# Altium integrated library Altium_SMD_Resister.IntLib: 493 symbols (part 5 of 8)
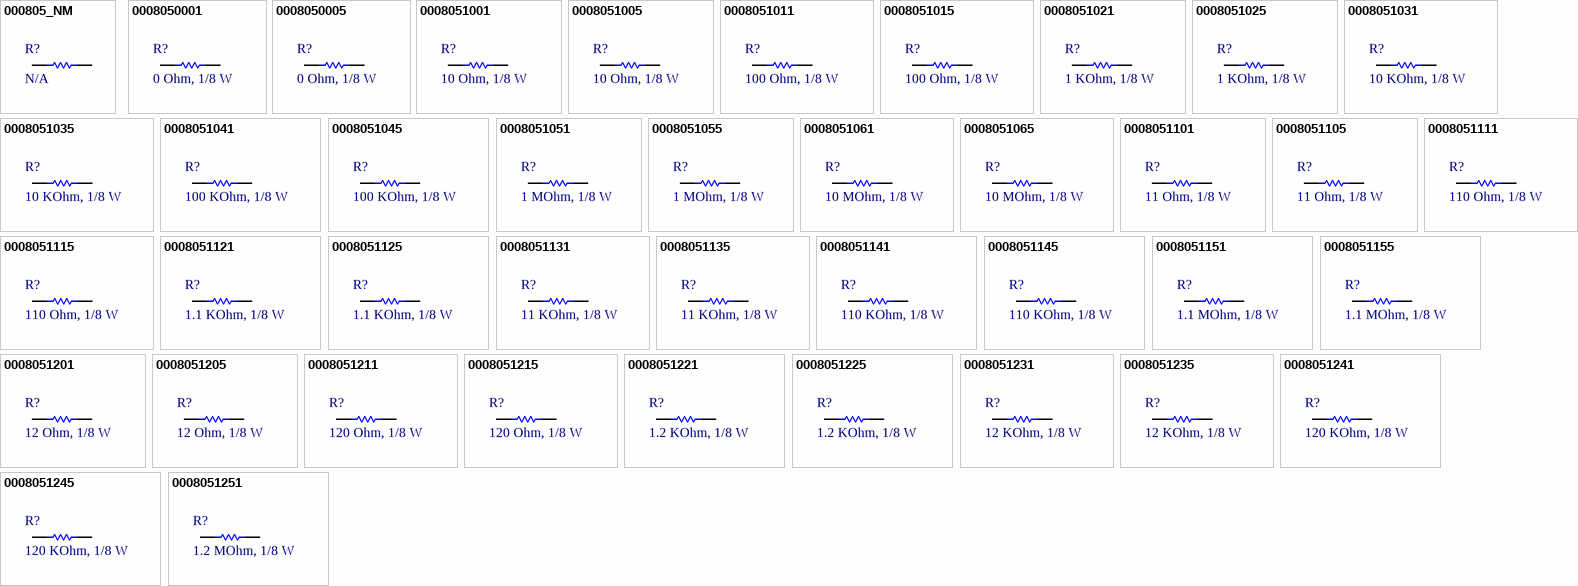
[diagram p16: symbols 000805_NM to 0008051251]

## 0008051241
designator R?, comment 120 KOhm, 1/8 W
RES, size 0805, 120 KOhm, 1/8 W; Manufacture  Name: Vishay Dale; Manufacture  SN: CRCW0805120KFKEB; Resistance tolerance: +/-1%; Rated Power: 1/8 W; Size: 0805; Mounting Technology: SMT; Datasheet: https://www.vishay.com/docs/20035/dcrcwe3.pdf; Resistance: 120 KOhm; Supplier 1 Name: Mouser; Supplier 1 SN: 71-CRCW0805120KFKEAC; Supplier 1 URL: https://www.mouser.vn/ProductDetail/Vishay-Dale/CRCW0805120KFKEAC?qs=E3Y5ESvWgWPz1L64z3fNYQ%3D%3D; Supplier 2 Name: Digi-Key; Supplier 2 SN: 541-CRCW0805120KFKEBTR-ND; Supplier 2 URL: https://www.digikey.com/en/products/detail/vishay-dale/CRCW0805120KFKEB/5073706; Supplier 3 Name: Thegioiic; Supplier 3 SN: N/A; Supplier 3 URL: N/A; Value: 120 KOhm, 1/8 W
footprint RESISTOR_0805 (Chip Resistor, 2-Leads, Body 2,00x1,20mm, IPC Medium Density)
pins: 1, 2

## 0008051245
designator R?, comment 120 KOhm, 1/8 W
RES, size 0805, 120 KOhm, 1/8 W; Manufacture  Name: Vishay Dale; Manufacture  SN: CRCW0805120KJNEA; Resistance tolerance: +/-5%; Rated Power: 1/8 W; Size: 0805; Mounting Technology: SMT; Datasheet: https://www.vishay.com/docs/20035/dcrcwe3.pdf; Resistance: 120 KOhm; Supplier 1 Name: Mouser; Supplier 1 SN: 71-CRCW0805120KJNEA; Supplier 1 URL: https://www.mouser.vn/ProductDetail/Vishay-Dale/CRCW0805120KJNEA?qs=RG5hTW80OZISYDThER7IDg%3D%3D; Supplier 2 Name: Digi-Key; Supplier 2 SN: 541-120KATR-ND; Supplier 2 URL: https://www.digikey.com/en/products/detail/vishay-dale/CRCW0805120KJNEA/1175248; Supplier 3 Name: Thegioiic; Supplier 3 SN: N/A; Supplier 3 URL: https://www.thegioiic.com/dien-tro-120-kohm-0805-5; Value: 120 KOhm, 1/8 W
footprint RESISTOR_0805 (Chip Resistor, 2-Leads, Body 2,00x1,20mm, IPC Medium Density)
pins: 1, 2

## 0008051251
designator R?, comment 1.2 MOhm, 1/8 W
RES, size 0805, 1.2 MOhm, 1/8 W; Manufacture  Name: Vishay Dale; Manufacture  SN: CRCW08051M20FKEA; Resistance tolerance: +/-1%; Rated Power: 1/8 W; Size: 0805; Mounting Technology: SMT; Datasheet: https://www.vishay.com/docs/20035/dcrcwe3.pdf; Resistance: 1.2 MOhm; Supplier 1 Name: Mouser; Supplier 1 SN: 71-CRCW08051M20FKEA; Supplier 1 URL: https://www.mouser.vn/ProductDetail/Vishay-Dale/CRCW08051M20FKEA?qs=uQdQW2oKfUVC5dKjGtshLg%3D%3D; Supplier 2 Name: Digi-Key; Supplier 2 SN: 541-1.20MCTR-ND; Supplier 2 URL: https://www.digikey.com/en/products/detail/vishay-dale/CRCW08051M20FKEA/1176024; Supplier 3 Name: Thegioiic; Supplier 3 SN: N/A; Supplier 3 URL: N/A; Value: 1.2 MOhm, 1/8 W
footprint RESISTOR_0805 (Chip Resistor, 2-Leads, Body 2,00x1,20mm, IPC Medium Density)
pins: 1, 2

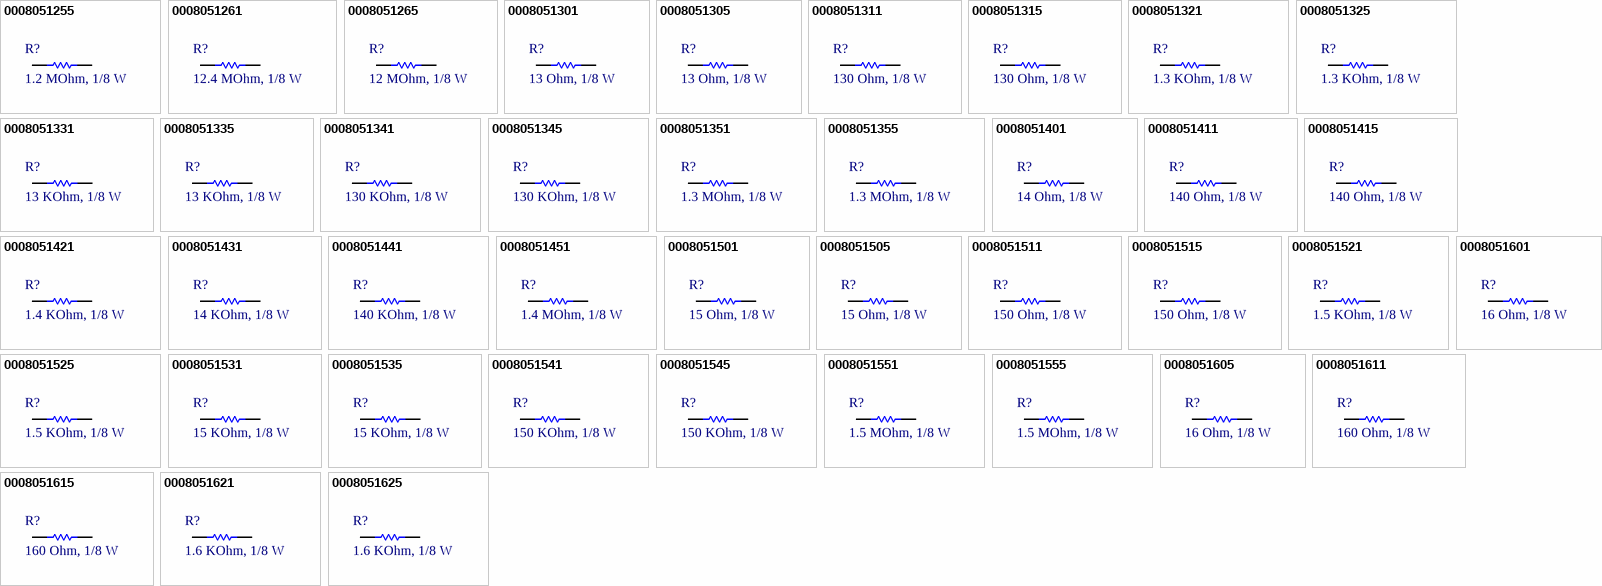
[diagram p7: symbols 0008051255 to 0008051625]

## 0008051255
designator R?, comment 1.2 MOhm, 1/8 W
RES, size 0805, 1.2 MOhm, 1/8 W; Manufacture  Name: Vishay Dale; Manufacture  SN: CRCW08051M20JNEA; Resistance tolerance: +/-5%; Rated Power: 1/8 W; Size: 0805; Mounting Technology: SMT; Datasheet: https://www.vishay.com/docs/20035/dcrcwe3.pdf; Resistance: 1.2 MOhm; Supplier 1 Name: Mouser; Supplier 1 SN: 71-CRCW08051M20JNEA; Supplier 1 URL: https://www.mouser.vn/ProductDetail/Vishay-Dale/CRCW08051M20JNEA?qs=1CkV0QOCgMrKOwOc4yedvw%3D%3D; Supplier 2 Name: Digi-Key; Supplier 2 SN: 541-1.2MATR-ND; Supplier 2 URL: https://www.digikey.com/en/products/detail/vishay-dale/CRCW08051M20JNEA/1175272; Supplier 3 Name: Thegioiic; Supplier 3 SN: N/A; Supplier 3 URL: https://www.thegioiic.com/dien-tro-1-2-mohm-0805-5; Value: 1.2 MOhm, 1/8 W
footprint RESISTOR_0805 (Chip Resistor, 2-Leads, Body 2,00x1,20mm, IPC Medium Density)
pins: 1, 2

## 0008051261
designator R?, comment 12.4 MOhm, 1/8 W
RES, size 0805, 12.4 MOhm, 1/8 W; Resistance tolerance: +/-1%; Rated Power: 1/8 W; Size: 0805; Mounting Technology: SMT; Datasheet: N/A; Resistance: 12.4 MOhm; Supplier 1 Name: Mouser; Supplier 1 SN: N/A; Supplier 1 URL: N/A; Supplier 2 Name: Digi-Key; Supplier 2 SN: 2679-CR0805-8W-1245FTTR-ND; Supplier 2 URL: https://www.digikey.com/en/products/detail/venkel/CR0805-8W-1245FT/12332325?s=N4IgjCBcoExaBjKAzAhgGwM4FMA0IB7KAbXAAYAOAdgE4QBdfABwBcoQBlFgJwEsA7AOYgAvvgDM8EEkhoseQiXBhxERiFbsufIaPxgYNCNGkoMOfEUilxNcTAoNmbSJx4DhYkDEoBWKTJyForW4DAAdAAsAAQAsgDyABYAtphOGi4gAKr8vCzxyLHYqJgArtzYeiAAtMaIZvKWSr6REPgwAGy0IPi%2BHQwig0A; Supplier 3 Name: Thegioiic; Supplier 3 SN: N/A; Supplier 3 URL: N/A; Manufacture  Name: N/A; Manufacture  SN: N/A; Value: 12.4 MOhm, 1/8 W
footprint RESISTOR_0805 (Chip Resistor, 2-Leads, Body 2,00x1,20mm, IPC Medium Density)
pins: 1, 2

## 0008051265
designator R?, comment 12 MOhm, 1/8 W
RES, size 0805, 12 MOhm, 1/8 W; Resistance tolerance: +/-5%; Rated Power: 1/8 W; Resistance: 12 MOhm; Size: 0805; Mounting Technology: SMT; Datasheet: N/A; Supplier 1 Name: Mouser; Supplier 1 SN: N/A; Supplier 1 URL: N/A; Supplier 2 Name: Digi-Key; Supplier 2 SN: CRCW080512M0JPEAHR-ND; Supplier 2 URL: https://www.digikey.com/en/products/detail/vishay-dale/CRCW080512M0JPEAHR/5073763?s=N4IgjCBcoExaBjKAzAhgGwM4FMA0IB7KAbXAAYAOAdgE4QBdfABwBcoQBlFgJwEsA7AOYgAvvgDM8EEkhoseQiRAwArGUmMQrdlz5DR%2BMDBoRo0lBhz4ikUuJriYFBszaROPAcLHLKKqTJyVoq24DAABACyAPIAFgC2mC5abiAAqvy8LNHIkdiomACu3NgGIAC0pogW8tZKKgAsEPQirUA; Supplier 3 Name: Thegioiic; Supplier 3 SN: N/A; Supplier 3 URL: N/A; Manufacture  Name: N/A; Manufacture  SN: N/A; Value: 12 MOhm, 1/8 W
footprint RESISTOR_0805 (Chip Resistor, 2-Leads, Body 2,00x1,20mm, IPC Medium Density)
pins: 1, 2

## 0008051301
designator R?, comment 13 Ohm, 1/8 W
RES, size 0805, 13 Ohm, 1/8 W; Manufacture  Name: Vishay Dale; Manufacture  SN: CRCW080513R0FKEA; Resistance tolerance: +/-1%; Rated Power: 1/8 W; Resistance: 13 Ohm; Size: 0805; Mounting Technology: SMT; Datasheet: https://www.vishay.com/docs/20035/dcrcwe3.pdf; Supplier 1 Name: Mouser; Supplier 1 SN: 71-CRCW0805-13; Supplier 1 URL: https://www.mouser.vn/ProductDetail/Vishay-Dale/CRCW080513R0FKTA?qs=ZOFh%252BZEbFTD7SfeHjm78bA%3D%3D; Supplier 2 Name: Digi-Key; Supplier 2 SN: 541-13.0CTR-ND; Supplier 2 URL: https://www.digikey.com/en/products/detail/vishay-dale/CRCW080513R0FKEA/1175421; Supplier 3 Name: Thegioiic; Supplier 3 SN: N/A; Supplier 3 URL: https://www.mouser.vn/ProductDetail/Vishay-Dale/CRCW080513R0FKTA?qs=ZOFh%252BZEbFTD7SfeHjm78bA%3D%3D; Value: 13 Ohm, 1/8 W
footprint RESISTOR_0805 (Chip Resistor, 2-Leads, Body 2,00x1,20mm, IPC Medium Density)
pins: 1, 2

## 0008051305
designator R?, comment 13 Ohm, 1/8 W
RES, size 0805, 13 Ohm, 1/8 W; Manufacture  Name: Vishay Dale; Manufacture  SN: CRCW080513R0JNEA; Resistance tolerance: +/-5%; Rated Power: 1/8 W; Resistance: 13 Ohm; Size: 0805; Mounting Technology: SMT; Datasheet: https://www.vishay.com/docs/20035/dcrcwe3.pdf; Supplier 1 Name: Mouser; Supplier 1 SN: 71-CRCW080513R0JNEA; Supplier 1 URL: https://www.mouser.vn/ProductDetail/Vishay-Dale/CRCW080513R0JNEA?qs=0y7Riw94L4g6KLaYV7LaYA%3D%3D; Supplier 2 Name: Digi-Key; Supplier 2 SN: 541-13.0CTR-ND; Supplier 2 URL: https://www.digikey.com/en/products/detail/vishay-dale/CRCW080513R0JNEA/1175153; Supplier 3 Name: Thegioiic; Supplier 3 SN: N/A; Supplier 3 URL: https://www.thegioiic.com/dien-tro-13-ohm-0805-5-; Value: 13 Ohm, 1/8 W
footprint RESISTOR_0805 (Chip Resistor, 2-Leads, Body 2,00x1,20mm, IPC Medium Density)
pins: 1, 2

## 0008051311
designator R?, comment 130 Ohm, 1/8 W
RES, size 0805, 130 Ohm, 1/8 W; Manufacture  Name: Vishay Dale; Manufacture  SN: CRCW0805130RFKEA; Resistance tolerance: +/-1%; Rated Power: 1/8 W; Resistance: 130 Ohm; Size: 0805; Mounting Technology: SMT; Datasheet: https://www.vishay.com/docs/20035/dcrcwe3.pdf; Supplier 1 Name: Mouser; Supplier 1 SN: 71-CRCW0805-130; Supplier 1 URL: https://www.mouser.vn/ProductDetail/Vishay-Dale/CRCW0805130RFKTA?qs=giVM%252B3aTMKxKqHz68BaXog%3D%3D; Supplier 2 Name: Digi-Key; Supplier 2 SN: 541-130CTR-ND; Supplier 2 URL: https://www.digikey.com/en/products/detail/vishay-dale/CRCW0805130RFKEA/1175535; Supplier 3 Name: Thegioiic; Supplier 3 SN: N/A; Supplier 3 URL: N/A; Value: 130 Ohm, 1/8 W
footprint RESISTOR_0805 (Chip Resistor, 2-Leads, Body 2,00x1,20mm, IPC Medium Density)
pins: 1, 2

## 0008051315
designator R?, comment 130 Ohm, 1/8 W
RES, size 0805, 130 Ohm, 1/8 W; Manufacture  Name: Vishay Dale; Manufacture  SN: CRCW0805130RFKEA; Resistance tolerance: +/-5%; Rated Power: 1/8 W; Resistance: 130 Ohm; Size: 0805; Mounting Technology: SMT; Datasheet: https://www.vishay.com/docs/20035/dcrcwe3.pdf; Supplier 1 Name: Mouser; Supplier 1 SN: 71-CRCW0805130RJNEA; Supplier 1 URL: https://www.mouser.vn/ProductDetail/Vishay-Dale/CRCW0805130RJNEA?qs=0y7Riw94L4hSzyuZjO1BEg%3D%3D; Supplier 2 Name: Digi-Key; Supplier 2 SN: 541-130ATR-ND; Supplier 2 URL: https://www.digikey.com/en/products/detail/vishay-dale/CRCW0805130RJNEA/1175177; Supplier 3 Name: Thegioiic; Supplier 3 SN: N/A; Supplier 3 URL: https://www.thegioiic.com/dien-tro-130-ohm-0805-5; Value: 130 Ohm, 1/8 W
footprint RESISTOR_0805 (Chip Resistor, 2-Leads, Body 2,00x1,20mm, IPC Medium Density)
pins: 1, 2

## 0008051321
designator R?, comment 1.3 KOhm, 1/8 W
RES, size 0805, 1.3 KOhm, 1/8 W; Manufacture  Name: Vishay Dale; Manufacture  SN: CRCW08051K30FKEA; Resistance tolerance: +/-1%; Rated Power: 1/8 W; Size: 0805; Mounting Technology: SMT; Datasheet: https://www.vishay.com/docs/20035/dcrcwe3.pdf; Resistance: 1.3 KOhm; Supplier 1 Name: Mouser; Supplier 1 SN: 71-CRCW0805-1.3K-E3; Supplier 1 URL: https://www.mouser.vn/ProductDetail/Vishay-Dale/CRCW08051K30FKEA?qs=DZvKvnD5UYWy1USUvWuhZQ%3D%3D; Supplier 2 Name: Digi-Key; Supplier 2 SN: 541-1.30KCTR-ND; Supplier 2 URL: https://www.digikey.com/en/products/detail/vishay-dale/CRCW08051K30FKEA/1175649; Supplier 3 Name: Thegioiic; Supplier 3 SN: N/A; Supplier 3 URL: N/A; Value: 1.3 KOhm, 1/8 W
footprint RESISTOR_0805 (Chip Resistor, 2-Leads, Body 2,00x1,20mm, IPC Medium Density)
pins: 1, 2

## 0008051325
designator R?, comment 1.3 KOhm, 1/8 W
RES, size 0805, 1.3 KOhm, 1/8 W; Manufacture  Name: Vishay Dale; Manufacture  SN: CRCW08051K30JNEA; Resistance tolerance: +/-5%; Rated Power: 1/8 W; Size: 0805; Mounting Technology: SMT; Datasheet: https://www.vishay.com/docs/20035/dcrcwe3.pdf; Resistance: 1.3 KOhm; Supplier 1 Name: Mouser; Supplier 1 SN: 71-CRCW08051K30JNEA; Supplier 1 URL: https://www.mouser.vn/ProductDetail/Vishay-Dale/CRCW08051K30JNEA?qs=DZvKvnD5UYXM63M39f9SOw%3D%3D; Supplier 2 Name: Digi-Key; Supplier 2 SN: 541-1.3KATR-ND; Supplier 2 URL: https://www.digikey.com/en/products/detail/vishay-dale/CRCW08051K30JNEA/1175201; Supplier 3 Name: Thegioiic; Supplier 3 SN: N/A; Supplier 3 URL: https://www.thegioiic.com/dien-tro-1-3-kohm-0805-5; Value: 1.3 KOhm, 1/8 W
footprint RESISTOR_0805 (Chip Resistor, 2-Leads, Body 2,00x1,20mm, IPC Medium Density)
pins: 1, 2

## 0008051331
designator R?, comment 13 KOhm, 1/8 W
RES, size 0805, 13 KOhm, 1/8 W; Manufacture  Name: Vishay Dale; Manufacture  SN: CRCW080513K0FKEA; Resistance tolerance: +/-1%; Rated Power: 1/8 W; Resistance: 13 KOhm; Size: 0805; Mounting Technology: SMT; Datasheet: https://www.vishay.com/docs/20035/dcrcwe3.pdf; Supplier 1 Name: Mouser; Supplier 1 SN: 71-CRCW080513K0FKEAC; Supplier 1 URL: https://www.mouser.vn/ProductDetail/Vishay-Dale/CRCW080513K0FKEAC?qs=E3Y5ESvWgWPE3tvm%252BBlG8w%3D%3D; Supplier 2 Name: Digi-Key; Supplier 2 SN: 541-13.0KCTR-ND; Supplier 2 URL: https://www.digikey.com/en/products/detail/vishay-dale/CRCW080513K0FKEA/1175763; Supplier 3 Name: Thegioiic; Supplier 3 SN: N/A; Supplier 3 URL: https://www.mouser.vn/ProductDetail/Vishay-Dale/CRCW08051K30FKEA?qs=DZvKvnD5UYWy1USUvWuhZQ%3D%3D; Value: 13 KOhm, 1/8 W
footprint RESISTOR_0805 (Chip Resistor, 2-Leads, Body 2,00x1,20mm, IPC Medium Density)
pins: 1, 2

## 0008051335
designator R?, comment 13 KOhm, 1/8 W
RES, size 0805, 13 KOhm, 1/8 W; Manufacture  Name: Vishay Dale; Manufacture  SN: CRCW080513K0JNEA; Resistance tolerance: +/-5%; Rated Power: 1/8 W; Resistance: 13 KOhm; Size: 0805; Mounting Technology: SMT; Datasheet: https://www.vishay.com/docs/20035/dcrcwe3.pdf; Supplier 1 Name: Mouser; Supplier 1 SN: 71-CRCW080513K0JNEA; Supplier 1 URL: https://www.mouser.vn/ProductDetail/Vishay-Dale/CRCW080513K0JNEA?qs=0y7Riw94L4jwZQ%2FJsMqPzw%3D%3D; Supplier 2 Name: Digi-Key; Supplier 2 SN: 541-13KATR-ND; Supplier 2 URL: https://www.digikey.com/en/products/detail/vishay-dale/CRCW080513K0JNEA/1175225; Supplier 3 Name: Thegioiic; Supplier 3 SN: N/A; Supplier 3 URL: https://www.thegioiic.com/dien-tro-13-kohm-0805-5; Value: 13 KOhm, 1/8 W
footprint RESISTOR_0805 (Chip Resistor, 2-Leads, Body 2,00x1,20mm, IPC Medium Density)
pins: 1, 2

## 0008051341
designator R?, comment 130 KOhm, 1/8 W
RES, size 0805, 130 KOhm, 1/8 W; Manufacture  Name: Vishay Dale; Manufacture  SN: CRCW0805130KFKEAC; Resistance tolerance: +/-1%; Rated Power: 1/8 W; Size: 0805; Mounting Technology: SMT; Datasheet: https://www.vishay.com/docs/28773/crcwce3.pdf; Resistance: 130 KOhm; Supplier 1 Name: Mouser; Supplier 1 SN: 71-CRCW0805-130K-E3; Supplier 1 URL: https://www.mouser.vn/ProductDetail/Vishay-Dale/CRCW0805130KFKEA?qs=0y7Riw94L4iHKWUxGOctIA%3D%3D; Supplier 2 Name: Digi-Key; Supplier 2 SN: 541-CRCW0805130KFKEACTR-ND; Supplier 2 URL: https://www.digikey.com/en/products/detail/vishay-dale/CRCW0805130KFKEAC/7922604; Supplier 3 Name: Thegioiic; Supplier 3 SN: N/A; Supplier 3 URL: https://www.thegioiic.com/dien-tro-133-kohm-0805-1-; Value: 130 KOhm, 1/8 W
footprint RESISTOR_0805 (Chip Resistor, 2-Leads, Body 2,00x1,20mm, IPC Medium Density)
pins: 1, 2

## 0008051345
designator R?, comment 130 KOhm, 1/8 W
RES, size 0805, 130 KOhm, 1/8 W; Manufacture  Name: Vishay Dale; Manufacture  SN: CRCW0805130KJNEA; Resistance tolerance: +/-5%; Rated Power: 1/8 W; Size: 0805; Mounting Technology: SMT; Datasheet: https://www.vishay.com/docs/20035/dcrcwe3.pdf; Resistance: 130 KOhm; Supplier 1 Name: Mouser; Supplier 1 SN: 71-CRCW0805130KJNEA; Supplier 1 URL: https://www.mouser.vn/ProductDetail/Vishay-Dale/CRCW0805130KJNEA?qs=0y7Riw94L4hrk%2FEo6puJGw%3D%3D; Supplier 2 Name: Digi-Key; Supplier 2 SN: 541-130KATR-ND; Supplier 2 URL: https://www.digikey.com/en/products/detail/vishay-dale/CRCW0805130KJNEA/1175249; Supplier 3 Name: Thegioiic; Supplier 3 SN: N/A; Supplier 3 URL: https://www.thegioiic.com/dien-tro-130-kohm-0805-5; Value: 130 KOhm, 1/8 W
footprint RESISTOR_0805 (Chip Resistor, 2-Leads, Body 2,00x1,20mm, IPC Medium Density)
pins: 1, 2

## 0008051351
designator R?, comment 1.3 MOhm, 1/8 W
RES, size 0805, 1.3 MOhm, 1/8 W; Manufacture  Name: Vishay Dale; Manufacture  SN: CRCW08051M30FKEA; Resistance tolerance: +/-1%; Rated Power: 1/8 W; Size: 0805; Mounting Technology: SMT; Datasheet: https://www.vishay.com/docs/20035/dcrcwe3.pdf; Resistance: 1.3 MOhm; Supplier 1 Name: Mouser; Supplier 1 SN: 71-CRCW08051M30FKEA; Supplier 1 URL: https://www.mouser.vn/ProductDetail/Vishay-Dale/CRCW08051M30FKEA?qs=1CkV0QOCgMqfDDw%2F4HOy0g%3D%3D; Supplier 2 Name: Digi-Key; Supplier 2 SN: 541-1.30MCTR-ND; Supplier 2 URL: https://www.digikey.com/en/products/detail/vishay-dale/CRCW08051M30FKEA/1176028; Supplier 3 Name: Thegioiic; Supplier 3 SN: N/A; Supplier 3 URL: N/A; Value: 1.3 MOhm, 1/8 W
footprint RESISTOR_0805 (Chip Resistor, 2-Leads, Body 2,00x1,20mm, IPC Medium Density)
pins: 1, 2

## 0008051355
designator R?, comment 1.3 MOhm, 1/8 W
RES, size 0805, 1.3 MOhm, 1/8 W; Manufacture  Name: Vishay Dale; Manufacture  SN: CRCW08051M30JNEAC; Resistance tolerance: +/-5%; Rated Power: 1/8 W; Size: 0805; Mounting Technology: SMT; Datasheet: https://www.vishay.com/docs/28773/crcwce3.pdf; Resistance: 1.3 MOhm; Supplier 1 Name: Mouser; Supplier 1 SN: 71-CRCW08051M30JNEA; Supplier 1 URL: https://www.mouser.vn/ProductDetail/Vishay-Dale/CRCW08051M30JNEA?qs=1CkV0QOCgMqStvDAyUDctQ%3D%3D; Supplier 2 Name: Digi-Key; Supplier 2 SN: CRCW08051M30JNEAC-ND; Supplier 2 URL: https://www.digikey.com/en/products/detail/vishay-dale/CRCW08051M30JNEAC/7923851; Supplier 3 Name: Thegioiic; Supplier 3 SN: N/A; Supplier 3 URL: https://www.thegioiic.com/dien-tro-1-3-mohm-0805-5; Value: 1.3 MOhm, 1/8 W
footprint RESISTOR_0805 (Chip Resistor, 2-Leads, Body 2,00x1,20mm, IPC Medium Density)
pins: 1, 2

## 0008051401
designator R?, comment 14 Ohm, 1/8 W
RES, size 0805, 14 Ohm, 1/8 W; Manufacture  Name: Vishay Dale; Manufacture  SN: CRCW080514R0FKEA; Resistance tolerance: +/-1%; Rated Power: 1/8 W; Resistance: 14 Ohm; Size: 0805; Mounting Technology: SMT; Datasheet: https://www.vishay.com/docs/20035/dcrcwe3.pdf; Supplier 1 Name: Mouser; Supplier 1 SN: 71-CRCW080514R0FKEA; Supplier 1 URL: https://www.mouser.vn/ProductDetail/Vishay-Dale/CRCW080514R0FKEA?qs=bMjB6bAaLENYJ14k%252BREMxw%3D%3D; Supplier 2 Name: Digi-Key; Supplier 2 SN: 541-14.0CTR-ND; Supplier 2 URL: https://www.digikey.com/en/products/detail/vishay-dale/CRCW080514R0FKEA/1175424; Supplier 3 Name: Thegioiic; Supplier 3 SN: N/A; Supplier 3 URL: N/A; Value: 14 Ohm, 1/8 W
footprint RESISTOR_0805 (Chip Resistor, 2-Leads, Body 2,00x1,20mm, IPC Medium Density)
pins: 1, 2

## 0008051411
designator R?, comment 140 Ohm, 1/8 W
RES, size 0805, 140 Ohm, 1/8 W; Manufacture  Name: Vishay Dale; Manufacture  SN: CRCW0805140RFKEA; Resistance tolerance: +/-1%; Rated Power: 1/8 W; Resistance: 140 Ohm; Size: 0805; Mounting Technology: SMT; Datasheet: https://www.vishay.com/docs/20035/dcrcwe3.pdf; Supplier 1 Name: Mouser; Supplier 1 SN: 71-CRCW0805-140-E3; Supplier 1 URL: https://www.mouser.vn/ProductDetail/Vishay-Dale/CRCW0805140RFKEA?qs=0y7Riw94L4jPO4%252BnYwmRgg%3D%3D; Supplier 2 Name: Digi-Key; Supplier 2 SN: 541-140CTR-ND; Supplier 2 URL: https://www.digikey.com/en/products/detail/vishay-dale/CRCW0805140RFKEA/1175538; Supplier 3 Name: Thegioiic; Supplier 3 SN: N/A; Supplier 3 URL: N/A; Value: 140 Ohm, 1/8 W
footprint RESISTOR_0805 (Chip Resistor, 2-Leads, Body 2,00x1,20mm, IPC Medium Density)
pins: 1, 2

## 0008051415
designator R?, comment 140 Ohm, 1/8 W
RES, size 0805, 140 Ohm, 1/8 W; Manufacture  Name: Vishay Dale; Manufacture  SN: CRCW0805140RJNTA; Resistance tolerance: +/-5%; Rated Power: 1/8 W; Resistance: 140 Ohm; Size: 0805; Mounting Technology: SMT; Datasheet: https://www.vishay.com/docs/20008/dcrcw.pdf; Supplier 1 Name: Mouser; Supplier 1 SN: N/A; Supplier 1 URL: N/A; Supplier 2 Name: Digi-Key; Supplier 2 SN: CRCW0805140RJNTA-ND; Supplier 2 URL: https://www.digikey.com/en/products/detail/vishay-dale/CRCW0805140RJNTA/5073823?s=N4IgjCBcoExaBjKAzAhgGwM4FMA0IB7KAbXAAYAOAdgE4QBdfABwBcoQBlFgJwEsA7AOYgAvvgDM8EEkhoseQiRAwArGUmMQrdlz5DR%2BMDBoRo0lBhz4ikUuJriYFBszaROPAcLHLKKqTJyVoq24AAsZAAEAPIAFgC2mC5abiAAqvy8LNHIALLYqJgArtzYBiAAtKaIFvLWSiphEPQirUA; Supplier 3 Name: Thegioiic; Supplier 3 SN: N/A; Supplier 3 URL: N/A; Value: 140 Ohm, 1/8 W
footprint RESISTOR_0805 (Chip Resistor, 2-Leads, Body 2,00x1,20mm, IPC Medium Density)
pins: 1, 2

## 0008051421
designator R?, comment 1.4 KOhm, 1/8 W
RES, size 0805, 1.4 KOhm, 1/8 W; Manufacture  Name: Vishay Dale; Manufacture  SN: CRCW08051K40FKEA; Resistance tolerance: +/-1%; Rated Power: 1/8 W; Size: 0805; Mounting Technology: SMT; Datasheet: https://www.vishay.com/docs/20035/dcrcwe3.pdf; Resistance: 1.4 KOhm; Supplier 1 Name: Mouser; Supplier 1 SN: 71-CRCW08051K40FKEAC; Supplier 1 URL: https://www.mouser.vn/ProductDetail/Vishay-Dale/CRCW08051K40FKEAC?qs=E3Y5ESvWgWMroF%2FACx5xCA%3D%3D; Supplier 2 Name: Digi-Key; Supplier 2 SN: 541-1.40KCTR-ND; Supplier 2 URL: https://www.digikey.com/en/products/detail/vishay-dale/CRCW08051K40FKEA/1175652; Supplier 3 Name: Thegioiic; Supplier 3 SN: N/A; Supplier 3 URL: N/A; Value: 1.4 KOhm, 1/8 W
footprint RESISTOR_0805 (Chip Resistor, 2-Leads, Body 2,00x1,20mm, IPC Medium Density)
pins: 1, 2

## 0008051431
designator R?, comment 14 KOhm, 1/8 W
RES, size 0805, 14 KOhm, 1/8 W; Manufacture  Name: Vishay Dale; Manufacture  SN: CRCW080514K0FKEA; Resistance tolerance: +/-1%; Rated Power: 1/8 W; Resistance: 14 KOhm; Size: 0805; Mounting Technology: SMT; Datasheet: https://www.vishay.com/docs/20035/dcrcwe3.pdf; Supplier 1 Name: Mouser; Supplier 1 SN: 71-CRCW0805-14K; Supplier 1 URL: https://www.mouser.vn/ProductDetail/Vishay-Dale/CRCW080514K0FKTA?qs=y%252BxuShyeZ0O8roe3MhXm6Q%3D%3D; Supplier 2 Name: Digi-Key; Supplier 2 SN: 541-14.0KCTR-ND; Supplier 2 URL: https://www.digikey.com/en/products/detail/vishay-dale/CRCW080514K0FKEA/1175766; Supplier 3 Name: Thegioiic; Supplier 3 SN: N/A; Supplier 3 URL: N/A; Value: 14 KOhm, 1/8 W
footprint RESISTOR_0805 (Chip Resistor, 2-Leads, Body 2,00x1,20mm, IPC Medium Density)
pins: 1, 2

## 0008051441
designator R?, comment 140 KOhm, 1/8 W
RES, size 0805, 140 KOhm, 1/8 W; Manufacture  Name: Vishay Dale; Manufacture  SN: CRCW0805140KFKEA; Resistance tolerance: +/-1%; Rated Power: 1/8 W; Size: 0805; Mounting Technology: SMT; Datasheet: https://www.vishay.com/docs/20035/dcrcwe3.pdf; Resistance: 140 KOhm; Supplier 1 Name: Mouser; Supplier 1 SN: 71-CRCW0805-140K-E3; Supplier 1 URL: https://www.mouser.vn/ProductDetail/Vishay-Dale/CRCW0805140KFKEA?qs=0y7Riw94L4gtbV%2FoXTvwTw%3D%3D; Supplier 2 Name: Digi-Key; Supplier 2 SN: 541-140KCTR-ND; Supplier 2 URL: https://www.digikey.com/en/products/detail/vishay-dale/CRCW0805140KFKEA/1175880; Supplier 3 Name: Thegioiic; Supplier 3 SN: N/A; Supplier 3 URL: N/A; Value: 140 KOhm, 1/8 W
footprint RESISTOR_0805 (Chip Resistor, 2-Leads, Body 2,00x1,20mm, IPC Medium Density)
pins: 1, 2

## 0008051451
designator R?, comment 1.4 MOhm, 1/8 W
RES, size 0805, 1.4 MOhm, 1/8 W; Manufacture  Name: Vishay Dale; Manufacture  SN: CRCW08051M40FKEA; Resistance tolerance: +/-1%; Rated Power: 1/8 W; Size: 0805; Mounting Technology: SMT; Datasheet: https://www.vishay.com/docs/20035/dcrcwe3.pdf; Resistance: 1.4 MOhm; Supplier 1 Name: Mouser; Supplier 1 SN: 71-CRCW08051M40FKEA; Supplier 1 URL: https://www.mouser.vn/ProductDetail/Vishay-Dale/CRCW08051M40FKEA?qs=1CkV0QOCgMrnDZ6HKgVapA%3D%3D; Supplier 2 Name: Digi-Key; Supplier 2 SN: 541-1.40MCTR-ND; Supplier 2 URL: https://www.digikey.com/en/products/detail/vishay-dale/CRCW08051M40FKEA/1176031; Supplier 3 Name: Thegioiic; Supplier 3 SN: N/A; Supplier 3 URL: N/A; Value: 1.4 MOhm, 1/8 W
footprint RESISTOR_0805 (Chip Resistor, 2-Leads, Body 2,00x1,20mm, IPC Medium Density)
pins: 1, 2

## 0008051501
designator R?, comment 15 Ohm, 1/8 W
RES, size 0805, 15 Ohm, 1/8 W; Manufacture  Name: Vishay Dale; Manufacture  SN: CRCW080515R0FKEB; Resistance tolerance: +/-1%; Rated Power: 1/8 W; Resistance: 15 Ohm; Size: 0805; Mounting Technology: SMT; Datasheet: https://www.vishay.com/docs/20035/dcrcwe3.pdf; Supplier 1 Name: Mouser; Supplier 1 SN: 71-CRCW080515R0FKEAC; Supplier 1 URL: https://www.mouser.vn/ProductDetail/Vishay-Dale/CRCW080515R0FKEAC?qs=E3Y5ESvWgWM44NF3DwTdDQ%3D%3D; Supplier 2 Name: Digi-Key; Supplier 2 SN: 541-CRCW080515R0FKEBTR-ND; Supplier 2 URL: https://www.digikey.com/en/products/detail/vishay-dale/CRCW080515R0FKEB/5073898; Supplier 3 Name: Thegioiic; Supplier 3 SN: N/A; Supplier 3 URL: https://www.mouser.vn/ProductDetail/Vishay-Dale/CRCW080514R0FKEA?qs=bMjB6bAaLENYJ14k%252BREMxw%3D%3D; Value: 15 Ohm, 1/8 W
footprint RESISTOR_0805 (Chip Resistor, 2-Leads, Body 2,00x1,20mm, IPC Medium Density)
pins: 1, 2

## 0008051505
designator R?, comment 15 Ohm, 1/8 W
RES, size 0805, 15 Ohm, 1/8 W; Manufacture  Name: Vishay Dale; Manufacture  SN: CRCW080515R0JNEA; Resistance tolerance: +/-5%; Rated Power: 1/8 W; Resistance: 15 Ohm; Size: 0805; Mounting Technology: SMT; Datasheet: https://www.vishay.com/docs/20035/dcrcwe3.pdf; Supplier 1 Name: Mouser; Supplier 1 SN: 71-CRCW0805J-15; Supplier 1 URL: https://www.mouser.vn/ProductDetail/Vishay-Dale/CRCW080515R0JNTA?qs=7lMtFQ21GD%2Fy1G9yTvj1Dg%3D%3D; Supplier 2 Name: Digi-Key; Supplier 2 SN: 541-15ATR-ND; Supplier 2 URL: https://www.digikey.com/en/products/detail/vishay-dale/CRCW080515R0JNEA/1175154; Supplier 3 Name: Thegioiic; Supplier 3 SN: N/A; Supplier 3 URL: https://www.thegioiic.com/dien-tro-15-ohm-0805-5-; Value: 15 Ohm, 1/8 W
footprint RESISTOR_0805 (Chip Resistor, 2-Leads, Body 2,00x1,20mm, IPC Medium Density)
pins: 1, 2

## 0008051511
designator R?, comment 150 Ohm, 1/8 W
RES, size 0805, 150 Ohm, 1/8 W; Manufacture  Name: Vishay Dale; Manufacture  SN: CRCW0805150RFKEAC; Resistance tolerance: +/-1%; Rated Power: 1/8 W; Resistance: 150 Ohm; Size: 0805; Mounting Technology: SMT; Datasheet: https://www.vishay.com/docs/28773/crcwce3.pdf; Supplier 1 Name: Mouser; Supplier 1 SN: 71-CRCW0805150RFKEB; Supplier 1 URL: https://www.mouser.vn/ProductDetail/Vishay-Dale/CRCW0805150RFKEB?qs=bMjB6bAaLEOZD7oncshwRw%3D%3D; Supplier 2 Name: Digi-Key; Supplier 2 SN: 541-CRCW0805150RFKEACTR-ND; Supplier 2 URL: https://www.digikey.com/en/products/detail/vishay-dale/CRCW0805150RFKEAC/7922303; Supplier 3 Name: Thegioiic; Supplier 3 SN: N/A; Supplier 3 URL: N/A; Value: 150 Ohm, 1/8 W
footprint RESISTOR_0805 (Chip Resistor, 2-Leads, Body 2,00x1,20mm, IPC Medium Density)
pins: 1, 2

## 0008051515
designator R?, comment 150 Ohm, 1/8 W
RES, size 0805, 150 Ohm, 1/8 W; Manufacture  Name: Vishay Dale; Manufacture  SN: CRCW0805150RFKEAC; Resistance tolerance: +/-5%; Rated Power: 1/8 W; Resistance: 150 Ohm; Size: 0805; Mounting Technology: SMT; Datasheet: https://www.vishay.com/docs/20035/dcrcwe3.pdf; Supplier 1 Name: Mouser; Supplier 1 SN: 541-150ATR-ND; Supplier 1 URL: https://www.digikey.com/en/products/detail/vishay-dale/CRCW0805150RJNEA/1175178; Supplier 2 Name: Digi-Key; Supplier 2 SN: 541-150ATR-ND; Supplier 2 URL: https://www.digikey.com/en/products/detail/vishay-dale/CRCW0805150RJNEA/1175178; Supplier 3 Name: Thegioiic; Supplier 3 SN: N/A; Supplier 3 URL: https://www.thegioiic.com/dien-tro-150-ohm-0805-5; Value: 150 Ohm, 1/8 W
footprint RESISTOR_0805 (Chip Resistor, 2-Leads, Body 2,00x1,20mm, IPC Medium Density)
pins: 1, 2

## 0008051521
designator R?, comment 1.5 KOhm, 1/8 W
RES, size 0805, 1.5 KOhm, 1/8 W; Manufacture  Name: Vishay Dale; Manufacture  SN: CRCW08051K50FKEAC; Resistance tolerance: +/-1%; Rated Power: 1/8 W; Size: 0805; Mounting Technology: SMT; Datasheet: https://www.vishay.com/docs/28773/crcwce3.pdf; Resistance: 1.5 KOhm; Supplier 1 Name: Mouser; Supplier 1 SN: 71-CRCW0805-1.5K-E3; Supplier 1 URL: https://www.mouser.vn/ProductDetail/Vishay-Dale/CRCW08051K50FKEA?qs=DZvKvnD5UYVo4ieimONp3Q%3D%3D; Supplier 2 Name: Digi-Key; Supplier 2 SN: 541-4161-2-ND; Supplier 2 URL: https://www.digikey.com/en/products/detail/vishay-dale/CRCW08051K50FKEAC/7928583; Supplier 3 Name: Thegioiic; Supplier 3 SN: N/A; Supplier 3 URL: N/A; Value: 1.5 KOhm, 1/8 W
footprint RESISTOR_0805 (Chip Resistor, 2-Leads, Body 2,00x1,20mm, IPC Medium Density)
pins: 1, 2

## 0008051525
designator R?, comment 1.5 KOhm, 1/8 W
RES, size 0805, 1.5 KOhm, 1/8 W; Manufacture  Name: Vishay Dale; Manufacture  SN: CRCW08051K50JNEAC; Resistance tolerance: +/-5%; Rated Power: 1/8 W; Size: 0805; Mounting Technology: SMT; Datasheet: https://www.vishay.com/docs/28773/crcwce3.pdf; Resistance: 1.5 KOhm; Supplier 1 Name: Mouser; Supplier 1 SN: 71-CRCW0805J-1.5K-E3; Supplier 1 URL: https://www.mouser.vn/ProductDetail/Vishay-Dale/CRCW08051K50JNEA?qs=DZvKvnD5UYVu0sAToX1nWg%3D%3D; Supplier 2 Name: Digi-Key; Supplier 2 SN: 541-CRCW08051K50JNEACTR-ND; Supplier 2 URL: https://www.digikey.com/en/products/detail/vishay-dale/CRCW08051K50JNEAC/7923721; Supplier 3 Name: Thegioiic; Supplier 3 SN: N/A; Supplier 3 URL: https://www.thegioiic.com/dien-tro-1-5-kohm-0805-5; Value: 1.5 KOhm, 1/8 W
footprint RESISTOR_0805 (Chip Resistor, 2-Leads, Body 2,00x1,20mm, IPC Medium Density)
pins: 1, 2

## 0008051531
designator R?, comment 15 KOhm, 1/8 W
RES, size 0805, 15 KOhm, 1/8 W; Manufacture  Name: Vishay Dale; Manufacture  SN: CRCW080515K0FKEAC; Resistance tolerance: +/-1%; Rated Power: 1/8 W; Resistance: 15 KOhm; Size: 0805; Mounting Technology: SMT; Datasheet: https://www.vishay.com/docs/28773/crcwce3.pdf; Supplier 1 Name: Mouser; Supplier 1 SN: 71-CRCW0805-15K-E3; Supplier 1 URL: https://www.mouser.vn/ProductDetail/Vishay-Dale/CRCW080515K0FKEA?qs=bMjB6bAaLEM4rXT2DoR3BA%3D%3D; Supplier 2 Name: Digi-Key; Supplier 2 SN: 541-4136-2-ND; Supplier 2 URL: https://www.digikey.com/en/products/detail/vishay-dale/CRCW080515K0FKEAC/7928558; Supplier 3 Name: Thegioiic; Supplier 3 SN: N/A; Supplier 3 URL: N/A; Value: 15 KOhm, 1/8 W
footprint RESISTOR_0805 (Chip Resistor, 2-Leads, Body 2,00x1,20mm, IPC Medium Density)
pins: 1, 2

## 0008051535
designator R?, comment 15 KOhm, 1/8 W
RES, size 0805, 15 KOhm, 1/8 W; Manufacture  Name: Vishay Dale; Manufacture  SN: CRCW080515K0JNEA; Resistance tolerance: +/-5%; Rated Power: 1/8 W; Resistance: 15 KOhm; Size: 0805; Mounting Technology: SMT; Datasheet: https://www.vishay.com/docs/20035/dcrcwe3.pdf; Supplier 1 Name: Mouser; Supplier 1 SN: 71-CRCW0805J-15K-E3; Supplier 1 URL: https://www.mouser.vn/ProductDetail/Vishay-Dale/CRCW080515K0JNEA?qs=bMjB6bAaLENV0lmPLLG8xQ%3D%3D; Supplier 2 Name: Digi-Key; Supplier 2 SN: 541-15KATR-ND; Supplier 2 URL: https://www.digikey.com/en/products/detail/vishay-dale/CRCW080515K0JNEA/1175226; Supplier 3 Name: Thegioiic; Supplier 3 SN: N/A; Supplier 3 URL: https://www.thegioiic.com/dien-tro-15-kohm-0805-5; Value: 15 KOhm, 1/8 W
footprint RESISTOR_0805 (Chip Resistor, 2-Leads, Body 2,00x1,20mm, IPC Medium Density)
pins: 1, 2

## 0008051541
designator R?, comment 150 KOhm, 1/8 W
RES, size 0805, 150 KOhm, 1/8 W; Manufacture  Name: Vishay Dale; Manufacture  SN: CRCW0805150KFKEAC; Resistance tolerance: +/-1%; Rated Power: 1/8 W; Size: 0805; Mounting Technology: SMT; Datasheet: https://www.vishay.com/docs/28773/crcwce3.pdf; Resistance: 150 KOhm; Supplier 1 Name: Mouser; Supplier 1 SN: 71-RCV0805150KFKEA; Supplier 1 URL: https://www.mouser.vn/ProductDetail/Vishay-Draloric/RCV0805150KFKEA?qs=%252BZJHVReOaHoD19mGJzXQNg%3D%3D; Supplier 2 Name: Digi-Key; Supplier 2 SN: 541-CRCW0805150KFKEACTR-ND; Supplier 2 URL: https://www.digikey.com/en/products/detail/vishay-dale/CRCW0805150KFKEAC/7922326; Supplier 3 Name: Thegioiic; Supplier 3 SN: N/A; Supplier 3 URL: https://www.vishay.com/docs/28773/crcwce3.pdf; Value: 150 KOhm, 1/8 W
footprint RESISTOR_0805 (Chip Resistor, 2-Leads, Body 2,00x1,20mm, IPC Medium Density)
pins: 1, 2

## 0008051545
designator R?, comment 150 KOhm, 1/8 W
RES, size 0805, 150 KOhm, 1/8 W; Manufacture  Name: Vishay Dale; Manufacture  SN: CRCW0805150KJNEA; Resistance tolerance: +/-5%; Rated Power: 1/8 W; Size: 0805; Mounting Technology: SMT; Datasheet: https://www.vishay.com/docs/20035/dcrcwe3.pdf; Resistance: 150 KOhm; Supplier 1 Name: Mouser; Supplier 1 SN: 71-CRCW0805150KJNEA; Supplier 1 URL: https://www.mouser.vn/ProductDetail/Vishay-Dale/CRCW0805150KJNEA?qs=bMjB6bAaLEMh7CXrahQqdQ%3D%3D; Supplier 2 Name: Digi-Key; Supplier 2 SN: 541-150KATR-ND; Supplier 2 URL: https://www.digikey.com/en/products/detail/vishay-dale/CRCW0805150KJNEA/1175250; Supplier 3 Name: Thegioiic; Supplier 3 SN: N/A; Supplier 3 URL: https://www.thegioiic.com/dien-tro-150-kohm-0805-5; Value: 150 KOhm, 1/8 W
footprint RESISTOR_0805 (Chip Resistor, 2-Leads, Body 2,00x1,20mm, IPC Medium Density)
pins: 1, 2

## 0008051551
designator R?, comment 1.5 MOhm, 1/8 W
RES, size 0805, 1.5 MOhm, 1/8 W; Manufacture  Name: Vishay Dale; Manufacture  SN: CRCW08051M50FKEB; Resistance tolerance: +/-1%; Rated Power: 1/8 W; Size: 0805; Mounting Technology: SMT; Datasheet: https://www.vishay.com/docs/20035/dcrcwe3.pdf; Resistance: 1.5 MOhm; Supplier 1 Name: Mouser; Supplier 1 SN: 71-CRCW08051M50FKEAC; Supplier 1 URL: https://www.mouser.vn/ProductDetail/Vishay-Dale/CRCW08051M50FKEAC?qs=E3Y5ESvWgWPkTbMzua%252BFLg%3D%3D; Supplier 2 Name: Digi-Key; Supplier 2 SN: 541-CRCW08051M50FKEBTR-ND; Supplier 2 URL: https://www.digikey.com/en/products/detail/vishay-dale/CRCW08051M50FKEB/5074207; Supplier 3 Name: Thegioiic; Supplier 3 SN: N/A; Supplier 3 URL: N/A; Value: 1.5 MOhm, 1/8 W
footprint RESISTOR_0805 (Chip Resistor, 2-Leads, Body 2,00x1,20mm, IPC Medium Density)
pins: 1, 2

## 0008051555
designator R?, comment 1.5 MOhm, 1/8 W
RES, size 0805, 1.5 MOhm, 1/8 W; Manufacture  Name: Vishay Dale; Manufacture  SN: CRCW08051M50JNEA; Resistance tolerance: +/-5%; Rated Power: 1/8 W; Size: 0805; Mounting Technology: SMT; Datasheet: https://www.vishay.com/docs/20035/dcrcwe3.pdf; Resistance: 1.5 MOhm; Supplier 1 Name: Mouser; Supplier 1 SN: 71-CRCW08051M50JNEA; Supplier 1 URL: https://www.mouser.vn/ProductDetail/Vishay-Dale/CRCW08051M50JNEA?qs=1CkV0QOCgMooXqsYWJtv9Q%3D%3D; Supplier 2 Name: Digi-Key; Supplier 2 SN: 541-1.5MATR-ND; Supplier 2 URL: https://www.digikey.com/en/products/detail/vishay-dale/CRCW08051M50JNEA/1175274; Supplier 3 Name: Thegioiic; Supplier 3 SN: N/A; Supplier 3 URL: https://www.thegioiic.com/dien-tro-1-5-mohm-0805-5; Value: 1.5 MOhm, 1/8 W
footprint RESISTOR_0805 (Chip Resistor, 2-Leads, Body 2,00x1,20mm, IPC Medium Density)
pins: 1, 2

## 0008051601
designator R?, comment 16 Ohm, 1/8 W
RES, size 0805, 16 Ohm, 1/8 W; Manufacture  Name: Vishay Dale; Manufacture  SN: CRCW080516R0FKEA; Resistance tolerance: +/-1%; Rated Power: 1/8 W; Resistance: 16 Ohm; Size: 0805; Mounting Technology: SMT; Datasheet: https://www.vishay.com/docs/20035/dcrcwe3.pdf; Supplier 1 Name: Mouser; Supplier 1 SN: 71-CRCW080516R0FKEA; Supplier 1 URL: https://www.mouser.vn/ProductDetail/Vishay-Dale/CRCW080516R0FKEA?qs=3ySnGRKSeyR1iWFsu%2FZBpQ%3D%3D; Supplier 2 Name: Digi-Key; Supplier 2 SN: 541-16.0CTR-ND; Supplier 2 URL: https://www.digikey.com/en/products/detail/vishay-dale/CRCW080516R0FKEA/1175430; Supplier 3 Name: Thegioiic; Supplier 3 SN: N/A; Supplier 3 URL: N/A; Value: 16 Ohm, 1/8 W
footprint RESISTOR_0805 (Chip Resistor, 2-Leads, Body 2,00x1,20mm, IPC Medium Density)
pins: 1, 2

## 0008051605
designator R?, comment 16 Ohm, 1/8 W
RES, size 0805, 16 Ohm, 1/8 W; Manufacture  Name: Vishay Dale; Manufacture  SN: CRCW080516R0JNEA; Resistance tolerance: +/-5%; Rated Power: 1/8 W; Resistance: 16 Ohm; Size: 0805; Mounting Technology: SMT; Datasheet: https://www.vishay.com/docs/20035/dcrcwe3.pdf; Supplier 1 Name: Mouser; Supplier 1 SN: 71-CRCW080516R0JNEA; Supplier 1 URL: https://www.mouser.vn/ProductDetail/Vishay-Dale/CRCW080516R0JNEA?qs=2mNt4BZ3oPyhLk0EE%252BJFZw%3D%3D; Supplier 2 Name: Digi-Key; Supplier 2 SN: 541-16ATR-ND; Supplier 2 URL: https://www.digikey.com/en/products/detail/vishay-dale/CRCW080516R0JNEA/1175155; Supplier 3 Name: Thegioiic; Supplier 3 SN: N/A; Supplier 3 URL: https://www.thegioiic.com/dien-tro-16-ohm-0805-5-; Value: 16 Ohm, 1/8 W
footprint RESISTOR_0805 (Chip Resistor, 2-Leads, Body 2,00x1,20mm, IPC Medium Density)
pins: 1, 2

## 0008051611
designator R?, comment 160 Ohm, 1/8 W
RES, size 0805, 160 Ohm, 1/8 W; Manufacture  Name: Vishay Dale; Manufacture  SN: CRCW0805160RFKEA; Resistance tolerance: +/-1%; Rated Power: 1/8 W; Resistance: 160 Ohm; Size: 0805; Mounting Technology: SMT; Datasheet: https://www.vishay.com/docs/20035/dcrcwe3.pdf; Supplier 1 Name: Mouser; Supplier 1 SN: 71-CRCW0805-160; Supplier 1 URL: https://www.mouser.vn/ProductDetail/Vishay-Dale/CRCW0805160RFKTA?qs=gDaCAY0XVXFAHdJsLcN14A%3D%3D; Supplier 2 Name: Digi-Key; Supplier 2 SN: 541-160CTR-ND; Supplier 2 URL: https://www.digikey.com/en/products/detail/vishay-dale/CRCW0805160RFKEA/1175544; Supplier 3 Name: Thegioiic; Supplier 3 SN: N/A; Supplier 3 URL: N/A; Value: 160 Ohm, 1/8 W
footprint RESISTOR_0805 (Chip Resistor, 2-Leads, Body 2,00x1,20mm, IPC Medium Density)
pins: 1, 2

## 0008051615
designator R?, comment 160 Ohm, 1/8 W
RES, size 0805, 160 Ohm, 1/8 W; Manufacture  Name: Vishay Dale; Manufacture  SN: CRCW0805160RJNEA; Resistance tolerance: +/-5%; Rated Power: 1/8 W; Resistance: 160 Ohm; Size: 0805; Mounting Technology: SMT; Datasheet: https://www.vishay.com/docs/20035/dcrcwe3.pdf; Supplier 1 Name: Mouser; Supplier 1 SN: 71-CRCW0805160RJNEA; Supplier 1 URL: https://www.mouser.vn/ProductDetail/Vishay-Dale/CRCW0805160RJNEA?qs=bMjB6bAaLEPyPBo8gbRxtw%3D%3D; Supplier 2 Name: Digi-Key; Supplier 2 SN: 541-160ATR-ND; Supplier 2 URL: https://www.digikey.com/en/products/detail/vishay-dale/CRCW0805160RJNEA/1175179; Supplier 3 Name: Thegioiic; Supplier 3 SN: N/A; Supplier 3 URL: https://www.thegioiic.com/dien-tro-160-ohm-0805-5; Value: 160 Ohm, 1/8 W
footprint RESISTOR_0805 (Chip Resistor, 2-Leads, Body 2,00x1,20mm, IPC Medium Density)
pins: 1, 2

## 0008051621
designator R?, comment 1.6 KOhm, 1/8 W
RES, size 0805, 1.6 KOhm, 1/8 W; Manufacture  Name: Vishay Dale; Manufacture  SN: CRCW08051K60FKEAC; Resistance tolerance: +/-1%; Rated Power: 1/8 W; Size: 0805; Mounting Technology: SMT; Datasheet: https://www.vishay.com/docs/28773/crcwce3.pdf; Resistance: 1.6 KOhm; Supplier 1 Name: Mouser; Supplier 1 SN: 71-CRCW08051K60FKEA; Supplier 1 URL: https://www.mouser.vn/ProductDetail/Vishay-Dale/CRCW08051K60FKEA?qs=1CkV0QOCgMpD4fa496FW%2FQ%3D%3D; Supplier 2 Name: Digi-Key; Supplier 2 SN: 541-CRCW08051K60FKEACTR-ND; Supplier 2 URL: https://www.digikey.com/en/products/detail/vishay-dale/CRCW08051K60FKEAC/7922561; Supplier 3 Name: Thegioiic; Supplier 3 SN: N/A; Supplier 3 URL: N/A; Value: 1.6 KOhm, 1/8 W
footprint RESISTOR_0805 (Chip Resistor, 2-Leads, Body 2,00x1,20mm, IPC Medium Density)
pins: 1, 2

## 0008051625
designator R?, comment 1.6 KOhm, 1/8 W
RES, size 0805, 1.6 KOhm, 1/8 W; Manufacture  Name: Vishay Dale; Manufacture  SN: CRCW08051K60JNEA; Resistance tolerance: +/-5%; Rated Power: 1/8 W; Size: 0805; Mounting Technology: SMT; Datasheet: https://www.vishay.com/docs/20035/dcrcwe3.pdf; Resistance: 1.6 KOhm; Supplier 1 Name: Mouser; Supplier 1 SN: 71-CRCW08051K60JNEA; Supplier 1 URL: https://www.mouser.vn/ProductDetail/Vishay-Dale/CRCW08051K60JNEA?qs=1CkV0QOCgMp9ti69jxGtDQ%3D%3D; Supplier 2 Name: Digi-Key; Supplier 2 SN: 541-1.6KATR-ND; Supplier 2 URL: https://www.digikey.com/en/products/detail/vishay-dale/CRCW08051K60JNEA/1175203; Supplier 3 Name: Thegioiic; Supplier 3 SN: N/A; Supplier 3 URL: https://www.thegioiic.com/dien-tro-1-6-kohm-0805-5; Value: 1.6 KOhm, 1/8 W
footprint RESISTOR_0805 (Chip Resistor, 2-Leads, Body 2,00x1,20mm, IPC Medium Density)
pins: 1, 2

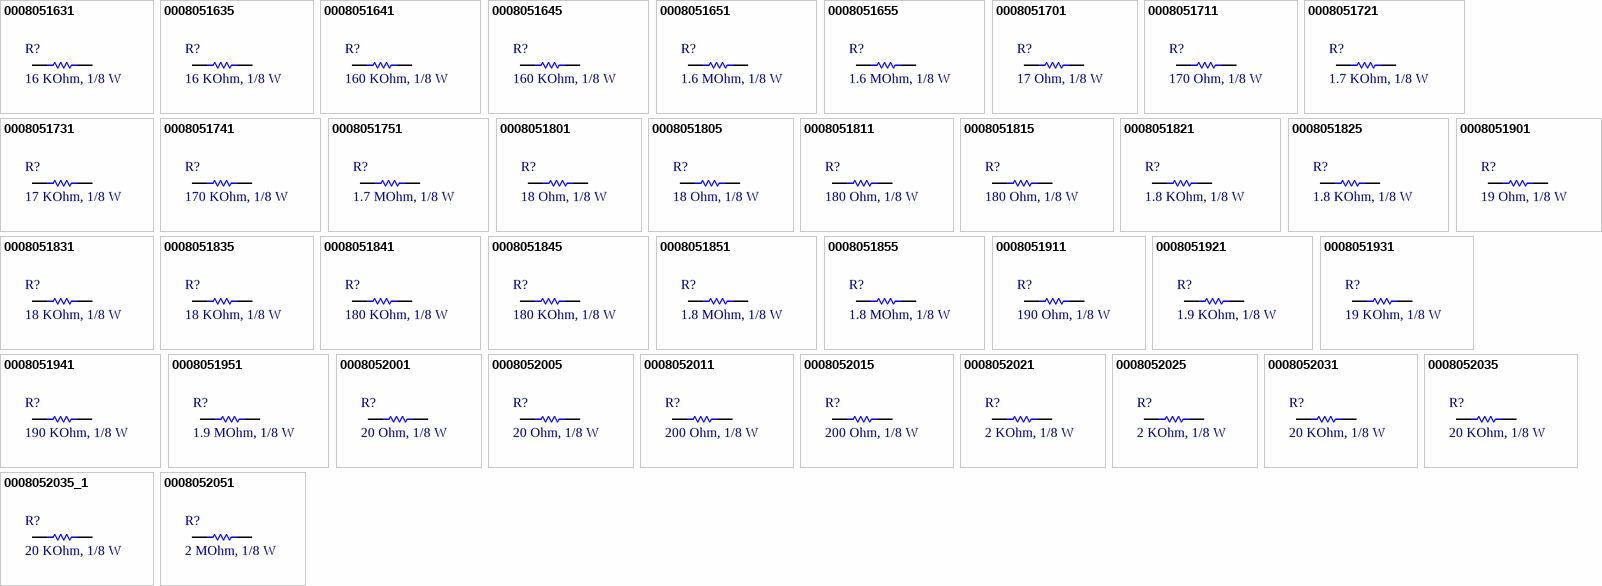
[diagram p8: symbols 0008051631 to 0008052051]

## 0008051631
designator R?, comment 16 KOhm, 1/8 W
RES, size 0805, 16 KOhm, 1/8 W; Manufacture  Name: Vishay Dale; Manufacture  SN: CRCW080516K0FKEA; Resistance tolerance: +/-1%; Rated Power: 1/8 W; Resistance: 16 KOhm; Size: 0805; Mounting Technology: SMT; Datasheet: https://www.vishay.com/docs/20035/dcrcwe3.pdf; Supplier 1 Name: Mouser; Supplier 1 SN: 71-CRCW080516K0FKEA; Supplier 1 URL: https://www.mouser.vn/ProductDetail/Vishay-Dale/CRCW080516K0FKEA?qs=2mNt4BZ3oPz8gFxKsC%252Bkpg%3D%3D; Supplier 2 Name: Digi-Key; Supplier 2 SN: 541-16.0KCTR-ND; Supplier 2 URL: https://www.digikey.com/en/products/detail/vishay-dale/CRCW080516K0FKEA/1175772; Supplier 3 Name: Thegioiic; Supplier 3 SN: N/A; Supplier 3 URL: N/A; Value: 16 KOhm, 1/8 W
footprint RESISTOR_0805 (Chip Resistor, 2-Leads, Body 2,00x1,20mm, IPC Medium Density)
pins: 1, 2

## 0008051635
designator R?, comment 16 KOhm, 1/8 W
RES, size 0805, 16 KOhm, 1/8 W; Manufacture  Name: Vishay Dale; Manufacture  SN: CRCW080516K0JNEA; Resistance tolerance: +/-5%; Rated Power: 1/8 W; Resistance: 16 KOhm; Size: 0805; Mounting Technology: SMT; Datasheet: https://www.vishay.com/docs/20035/dcrcwe3.pdf; Supplier 1 Name: Mouser; Supplier 1 SN: 71-CRCW080516K0JNEA; Supplier 1 URL: https://www.mouser.vn/ProductDetail/Vishay-Dale/CRCW080516K0JNEA?qs=2mNt4BZ3oPz0YxKgjgScdw%3D%3D; Supplier 2 Name: Digi-Key; Supplier 2 SN: 541-16KATR-ND; Supplier 2 URL: https://www.digikey.com/en/products/detail/vishay-dale/CRCW080516K0JNEA/1175227; Supplier 3 Name: Thegioiic; Supplier 3 SN: N/A; Supplier 3 URL: https://www.thegioiic.com/dien-tro-16-kohm-0805-5; Value: 16 KOhm, 1/8 W
footprint RESISTOR_0805 (Chip Resistor, 2-Leads, Body 2,00x1,20mm, IPC Medium Density)
pins: 1, 2

## 0008051641
designator R?, comment 160 KOhm, 1/8 W
RES, size 0805, 160 KOhm, 1/8 W; Manufacture  Name: Vishay Dale; Manufacture  SN: CRCW0805160KFKEA; Resistance tolerance: +/-1%; Rated Power: 1/8 W; Size: 0805; Mounting Technology: SMT; Datasheet: https://www.vishay.com/docs/20035/dcrcwe3.pdf; Resistance: 160 KOhm; Supplier 1 Name: Mouser; Supplier 1 SN: 71-CRCW0805160KFKEA; Supplier 1 URL: https://www.mouser.vn/ProductDetail/Vishay-Dale/CRCW0805160KFKEA?qs=K41p2XksEyGudUKnUltmEw%3D%3D; Supplier 2 Name: Digi-Key; Supplier 2 SN: 541-160KCTR-ND; Supplier 2 URL: https://www.digikey.com/en/products/detail/vishay-dale/CRCW0805160KFKEA/1175886; Supplier 3 Name: Thegioiic; Supplier 3 SN: N/A; Supplier 3 URL: N/A; Value: 160 KOhm, 1/8 W
footprint RESISTOR_0805 (Chip Resistor, 2-Leads, Body 2,00x1,20mm, IPC Medium Density)
pins: 1, 2

## 0008051645
designator R?, comment 160 KOhm, 1/8 W
RES, size 0805, 160 KOhm, 1/8 W; Manufacture  Name: Vishay Dale; Manufacture  SN: CRCW0805160RJNEA; Resistance tolerance: +/-5%; Rated Power: 1/8 W; Size: 0805; Mounting Technology: SMT; Datasheet: https://www.vishay.com/docs/20035/dcrcwe3.pdf; Resistance: 160 KOhm; Supplier 1 Name: Mouser; Supplier 1 SN: 71-CRCW0805160KJNEA; Supplier 1 URL: https://www.mouser.vn/ProductDetail/Vishay-Dale/CRCW0805160KJNEA?qs=bMjB6bAaLENzV8duqa5ZYg%3D%3D; Supplier 2 Name: Digi-Key; Supplier 2 SN: 541-160ATR-ND; Supplier 2 URL: https://www.digikey.com/en/products/detail/vishay-dale/CRCW0805160RJNEA/1175179; Supplier 3 Name: Thegioiic; Supplier 3 SN: N/A; Supplier 3 URL: https://www.thegioiic.com/dien-tro-160-kohm-0805-5; Value: 160 KOhm, 1/8 W
footprint RESISTOR_0805 (Chip Resistor, 2-Leads, Body 2,00x1,20mm, IPC Medium Density)
pins: 1, 2

## 0008051651
designator R?, comment 1.6 MOhm, 1/8 W
RES, size 0805, 1.6 MOhm, 1/8 W; Manufacture  Name: Vishay Dale; Manufacture  SN: CRCW08051M60FKEA; Resistance tolerance: +/-1%; Rated Power: 1/8 W; Size: 0805; Mounting Technology: SMT; Datasheet: https://www.vishay.com/docs/20035/dcrcwe3.pdf; Resistance: 1.6 MOhm; Supplier 1 Name: Mouser; Supplier 1 SN: 71-CRCW08051M60FKEA; Supplier 1 URL: https://www.mouser.vn/ProductDetail/Vishay-Dale/CRCW08051M60FKEA?qs=uQdQW2oKfUW%2F4zUqScrJaQ%3D%3D; Supplier 2 Name: Digi-Key; Supplier 2 SN: 541-1.60MCTR-ND; Supplier 2 URL: https://www.digikey.com/en/products/detail/vishay-dale/CRCW08051M60FKEA/1176037; Supplier 3 Name: Thegioiic; Supplier 3 SN: N/A; Supplier 3 URL: N/A; Value: 1.6 MOhm, 1/8 W
footprint RESISTOR_0805 (Chip Resistor, 2-Leads, Body 2,00x1,20mm, IPC Medium Density)
pins: 1, 2

## 0008051655
designator R?, comment 1.6 MOhm, 1/8 W
RES, size 0805, 1.6 MOhm, 1/8 W; Manufacture  Name: Vishay Dale; Manufacture  SN: CRCW08051M60JNEA; Resistance tolerance: +/-5%; Rated Power: 1/8 W; Size: 0805; Mounting Technology: SMT; Datasheet: https://www.vishay.com/docs/20035/dcrcwe3.pdf; Resistance: 1.6 MOhm; Supplier 1 Name: Mouser; Supplier 1 SN: 71-CRCW08051M60JNEA; Supplier 1 URL: https://www.mouser.vn/ProductDetail/Vishay-Dale/CRCW08051M60JNEA?qs=1CkV0QOCgMp8tYAVVZEuMg%3D%3D; Supplier 2 Name: Digi-Key; Supplier 2 SN: 541-1.6MATR-ND; Supplier 2 URL: https://www.digikey.com/en/products/detail/vishay-dale/CRCW08051M60JNEA/1175275; Supplier 3 Name: Thegioiic; Supplier 3 SN: N/A; Supplier 3 URL: https://www.thegioiic.com/dien-tro-1-6-mohm-0805-5; Value: 1.6 MOhm, 1/8 W
footprint RESISTOR_0805 (Chip Resistor, 2-Leads, Body 2,00x1,20mm, IPC Medium Density)
pins: 1, 2

## 0008051701
designator R?, comment 17 Ohm, 1/8 W
RES, size 0805, 17 Ohm, 1/8 W; Manufacture  Name: Vishay Dale; Manufacture  SN: WSL0805R0100FEA; Resistance tolerance: +/-1%; Rated Power: 1/8 W; Resistance: 17 Ohm; Size: 0805; Mounting Technology: SMT; Datasheet: https://www.vishay.com/docs/30100/wsl.pdf; Supplier 1 Name: Mouser; Supplier 1 SN: 71-CRCW0805-17.4; Supplier 1 URL: https://www.mouser.vn/ProductDetail/Vishay-Dale/CRCW080517R4FKTA?qs=oNEoSKgIPbHcFwc%252BHnSBwQ%3D%3D; Supplier 2 Name: Digi-Key; Supplier 2 SN: WSLA-.01TR-ND; Supplier 2 URL: https://www.digikey.com/en/products/detail/vishay-dale/WSL0805R0100FEA/712452; Supplier 3 Name: Thegioiic; Supplier 3 SN: N/A; Supplier 3 URL: N/A; Value: 17 Ohm, 1/8 W
footprint RESISTOR_0805 (Chip Resistor, 2-Leads, Body 2,00x1,20mm, IPC Medium Density)
pins: 1, 2

## 0008051711
designator R?, comment 170 Ohm, 1/8 W
RES, size 0805, 170 Ohm, 1/8 W; Manufacture  Name: Vishay Dale; Manufacture  SN: CRCW0805174RFKEA; Resistance tolerance: +/-1%; Rated Power: 1/8 W; Resistance: 170 Ohm; Size: 0805; Mounting Technology: SMT; Datasheet: https://www.vishay.com/docs/20035/dcrcwe3.pdf; Supplier 1 Name: Mouser; Supplier 1 SN: 71-CRCW0805-174-E3; Supplier 1 URL: https://www.mouser.vn/ProductDetail/Vishay-Dale/CRCW0805174RFKEA?qs=2mNt4BZ3oPxH3Lr34Rz8ow%3D%3D; Supplier 2 Name: Digi-Key; Supplier 2 SN: 541-174CTR-ND; Supplier 2 URL: https://www.digikey.com/en/products/detail/vishay-dale/CRCW0805174RFKEA/1175548; Supplier 3 Name: Thegioiic; Supplier 3 SN: N/A; Supplier 3 URL: N/A; Value: 170 Ohm, 1/8 W
footprint RESISTOR_0805 (Chip Resistor, 2-Leads, Body 2,00x1,20mm, IPC Medium Density)
pins: 1, 2

## 0008051721
designator R?, comment 1.7 KOhm, 1/8 W
RES, size 0805, 1.7 KOhm, 1/8 W; Manufacture  Name: Vishay Dale; Manufacture  SN: CRCW08051K74FKEA; Resistance tolerance: +/-1%; Rated Power: 1/8 W; Size: 0805; Mounting Technology: SMT; Datasheet: https://www.vishay.com/docs/20035/dcrcwe3.pdf; Resistance: 1.7 KOhm; Supplier 1 Name: Mouser; Supplier 1 SN: 71-CRCW08051R74FKEA; Supplier 1 URL: https://www.mouser.vn/ProductDetail/Vishay-Dale/CRCW08051R74FKEA?qs=VZN8LE6el69bxHRyB8AcJA%3D%3D; Supplier 2 Name: Digi-Key; Supplier 2 SN: 541-1.74KCTR-ND; Supplier 2 URL: https://www.digikey.com/en/products/detail/vishay-dale/CRCW08051K74FKEA/1175662; Supplier 3 Name: Thegioiic; Supplier 3 SN: N/A; Supplier 3 URL: N/A; Value: 1.7 KOhm, 1/8 W
footprint RESISTOR_0805 (Chip Resistor, 2-Leads, Body 2,00x1,20mm, IPC Medium Density)
pins: 1, 2

## 0008051731
designator R?, comment 17 KOhm, 1/8 W
RES, size 0805, 17 KOhm, 1/8 W; Manufacture  Name: Vishay Dale; Manufacture  SN: CRCW080516K9FKEA; Resistance tolerance: +/-1%; Rated Power: 1/8 W; Resistance: 17 KOhm; Size: 0805; Mounting Technology: SMT; Datasheet: https://www.vishay.com/docs/20035/dcrcwe3.pdf; Supplier 1 Name: Mouser; Supplier 1 SN: 71-CRCW080516R9FKEA; Supplier 1 URL: https://www.mouser.vn/ProductDetail/Vishay-Dale/CRCW080516R9FKEA?qs=2mNt4BZ3oPy6ledn75dEfw%3D%3D; Supplier 2 Name: Digi-Key; Supplier 2 SN: 541-16.9KCTR-ND; Supplier 2 URL: https://www.digikey.com/en/products/detail/vishay-dale/CRCW080516K9FKEA/1175775; Supplier 3 Name: Thegioiic; Supplier 3 SN: N/A; Supplier 3 URL: https://www.thegioiic.com/dien-tro-16-9-kohm-0805-1; Value: 17 KOhm, 1/8 W
footprint RESISTOR_0805 (Chip Resistor, 2-Leads, Body 2,00x1,20mm, IPC Medium Density)
pins: 1, 2

## 0008051741
designator R?, comment 170 KOhm, 1/8 W
RES, size 0805, 170 KOhm, 1/8 W; Manufacture  Name: Vishay Dale; Manufacture  SN: CRCW0805169KFKEA; Resistance tolerance: +/-1%; Rated Power: 1/8 W; Size: 0805; Mounting Technology: SMT; Datasheet: https://www.vishay.com/docs/20035/dcrcwe3.pdf; Resistance: 170 KOhm; Supplier 1 Name: Mouser; Supplier 1 SN: 71-CRCW0805169KFKEA; Supplier 1 URL: https://www.mouser.vn/ProductDetail/Vishay-Dale/CRCW0805169KFKEA?qs=2mNt4BZ3oPxAzoQkYaNjxQ%3D%3D; Supplier 2 Name: Digi-Key; Supplier 2 SN: 541-169KCTR-ND; Supplier 2 URL: https://www.digikey.com/en/products/detail/vishay-dale/CRCW0805169KFKEA/1175889; Supplier 3 Name: Thegioiic; Supplier 3 SN: N/A; Supplier 3 URL: https://www.vishay.com/docs/20035/dcrcwe3.pdf; Value: 170 KOhm, 1/8 W
footprint RESISTOR_0805 (Chip Resistor, 2-Leads, Body 2,00x1,20mm, IPC Medium Density)
pins: 1, 2

## 0008051751
designator R?, comment 1.7 MOhm, 1/8 W
RES, size 0805, 1.7 MOhm, 1/8 W; Manufacture  Name: Vishay Dale; Manufacture  SN: CRCW08051M69FKEA; Resistance tolerance: +/-1%; Rated Power: 1/8 W; Size: 0805; Mounting Technology: SMT; Datasheet: https://www.vishay.com/docs/20035/dcrcwe3.pdf; Resistance: 1.7 MOhm; Supplier 1 Name: Mouser; Supplier 1 SN: 71-CRCW08051M69FKEA; Supplier 1 URL: https://www.mouser.vn/ProductDetail/Vishay-Dale/CRCW08051M69FKEA?qs=uQdQW2oKfUWB0BOy%2FF%2FQ%252Bw%3D%3D; Supplier 2 Name: Digi-Key; Supplier 2 SN: 541-1.69MCTR-ND; Supplier 2 URL: https://www.digikey.com/en/products/detail/vishay-dale/CRCW08051M69FKEA/1176040; Supplier 3 Name: Thegioiic; Supplier 3 SN: N/A; Supplier 3 URL: N/A; Value: 1.7 MOhm, 1/8 W
footprint RESISTOR_0805 (Chip Resistor, 2-Leads, Body 2,00x1,20mm, IPC Medium Density)
pins: 1, 2

## 0008051801
designator R?, comment 18 Ohm, 1/8 W
RES, size 0805, 18 Ohm, 1/8 W; Manufacture  Name: Vishay Dale; Manufacture  SN: CRCW080518R0FKEAC; Resistance tolerance: +/-1%; Rated Power: 1/8 W; Resistance: 18 Ohm; Size: 0805; Mounting Technology: SMT; Datasheet: https://www.vishay.com/docs/28773/crcwce3.pdf; Supplier 1 Name: Mouser; Supplier 1 SN: 71-CRCW080518R0FKEA; Supplier 1 URL: https://www.mouser.vn/ProductDetail/Vishay-Dale/CRCW080518R0FKEA?qs=DZvKvnD5UYXeNlxVPLgBIg%3D%3D; Supplier 2 Name: Digi-Key; Supplier 2 SN: 541-CRCW080518R0FKEACTR-ND; Supplier 2 URL: https://www.digikey.com/en/products/detail/vishay-dale/CRCW080518R0FKEAC/7922560; Supplier 3 Name: Thegioiic; Supplier 3 SN: N/A; Supplier 3 URL: N/A; Value: 18 Ohm, 1/8 W
footprint RESISTOR_0805 (Chip Resistor, 2-Leads, Body 2,00x1,20mm, IPC Medium Density)
pins: 1, 2

## 0008051805
designator R?, comment 18 Ohm, 1/8 W
RES, size 0805, 18 Ohm, 1/8 W; Manufacture  Name: Vishay Dale; Manufacture  SN: CRCW080518R0JNEA; Resistance tolerance: +/-5%; Rated Power: 1/8 W; Resistance: 18 Ohm; Size: 0805; Mounting Technology: SMT; Datasheet: https://www.vishay.com/docs/20035/dcrcwe3.pdf; Supplier 1 Name: Mouser; Supplier 1 SN: 71-CRCW080518R0JNEA; Supplier 1 URL: https://www.mouser.vn/ProductDetail/Vishay-Dale/CRCW080518R0JNEA?qs=DZvKvnD5UYVzWW6FXLIdlg%3D%3D; Supplier 2 Name: Digi-Key; Supplier 2 SN: 541-18ATR-ND; Supplier 2 URL: https://www.digikey.com/en/products/detail/vishay-dale/CRCW080518R0JNEA/1175156; Supplier 3 Name: Thegioiic; Supplier 3 SN: N/A; Supplier 3 URL: https://www.thegioiic.com/dien-tro-18-ohm-0805-5-; Value: 18 Ohm, 1/8 W
footprint RESISTOR_0805 (Chip Resistor, 2-Leads, Body 2,00x1,20mm, IPC Medium Density)
pins: 1, 2